# Altium schematic symbol library VD.SchLib: 74 symbols
Pins are listed as number, name and electrical type; pins without a type are passive.

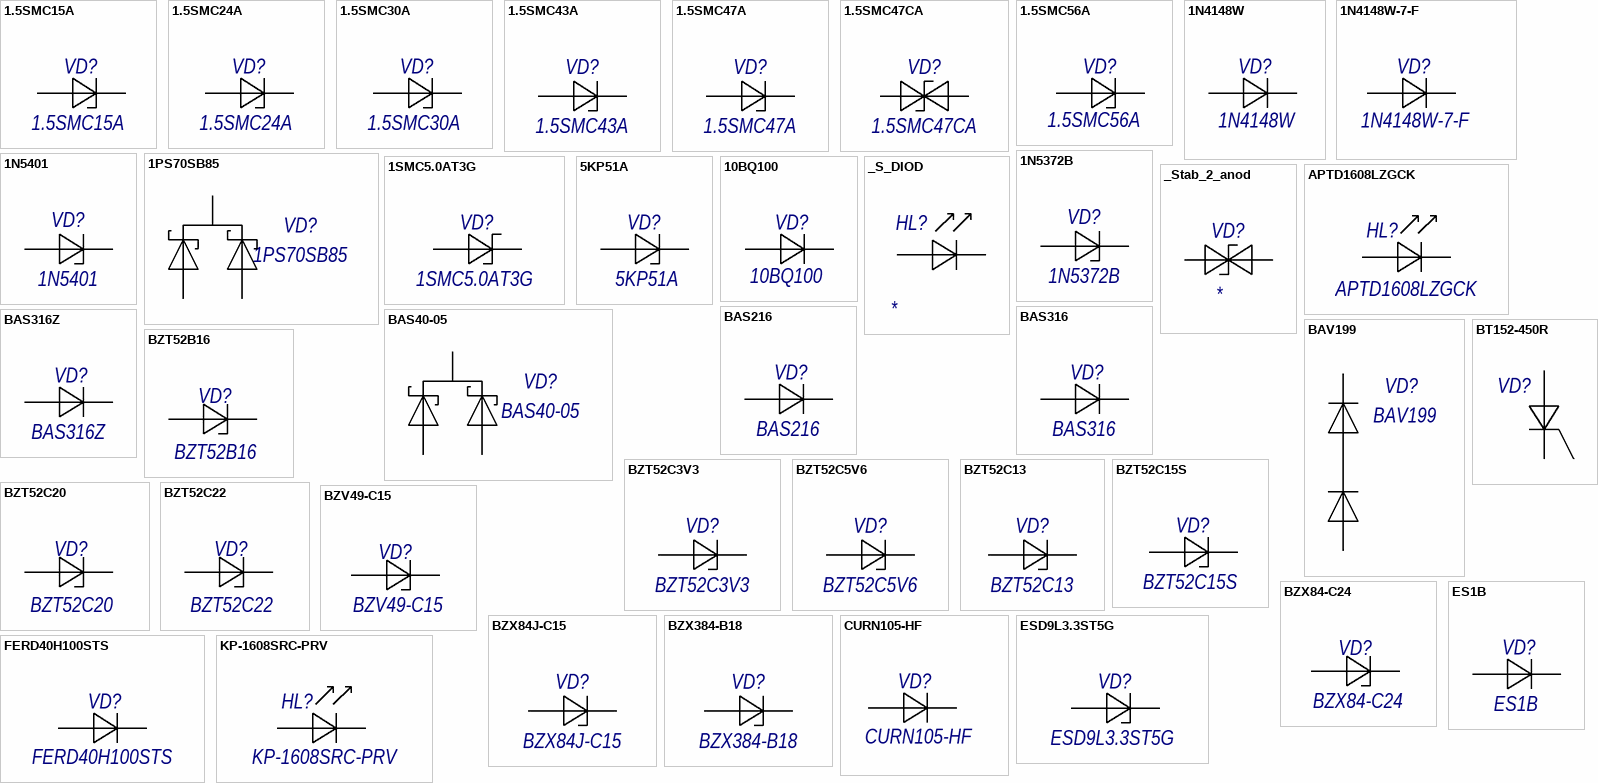
[diagram p0: symbols 1.5SMC15A to KP-1608SRC-PRV]

## 1.5SMC15A
designator VD?, comment PartNumber: 1.5SMC15A  (hidden comment: Стабилитрон 1.5SMC15A фирма "Littelfuse Inc")
min 14.3V max 15.8V 1.5 kW; GOST: Стабилитрон 1.5SMC15A фирма "Littelfuse Inc"
footprint SMC
pins: A 1, C 2

## 1.5SMC24A
designator VD?, comment PartNumber: 1.5SMC24A  (hidden comment: Стабилитрон 1.5SMC24A фирма ""Littelfuse"")
min 22.8V max 25.2V 1.5 kW; GOST: Стабилитрон 1.5SMC24A фирма ""Littelfuse""
footprint SMC
pins: A 1, C 2

## 1.5SMC30A
designator VD?, comment PartNumber: 1.5SMC30A  (hidden comment: Стабилитрон 1.5SMC30A фирма "Littelfuse")
min 28.5V max 31.5V 1.5 kW; GOST: Стабилитрон 1.5SMC30A фирма "Littelfuse"
footprint SMC
pins: A 1, C 2

## 1.5SMC43A
designator VD?, comment PartNumber: 1.5SMC43A  (hidden comment: Стабилитрон 1.5SMC43A фирма "Littelfuse")
min 40.9V max 45.2V 1.5 kW; GOST: Стабилитрон 1.5SMC43A фирма "Littelfuse"
footprint SMC
pins: A 1, C 2

## 1.5SMC47A
designator VD?, comment PartNumber: 1.5SMC47A  (hidden comment: Стабилитрон 1.5SMC47A фирма "Littelfuse")
min 44.7V max 49.4V 1.5 kW; GOST: Стабилитрон 1.5SMC47A фирма "Littelfuse"
footprint SMC
pins: A 1, C 2

## 1.5SMC47СA
designator VD?, comment PartNumber: 1.5SMC47СA  (hidden comment: Стабилитрон 1.5SMC47СA фирма "Littelfuse")
min 44.7V max 49.4V 1.5 kW Bi-directional; GOST: Стабилитрон 1.5SMC47СA фирма "Littelfuse"
footprint SMC (Bi) (SMC Bi-directional)
pins: 1, 2

## 1.5SMC56A
designator VD?  PartNumber: 1.5SMC56A
min 53.2V max 58.8V 1.5 kW; GOST: Стабилитрон 1.5SMC56A фирма "Littelfuse"
footprint SMC
footprint SMC
pins: A 1, C 2

## 1N4148W
designator VD?, comment PartNumber: 1N4148W  (hidden comment: Диод 1N4148W фирма "Diodes Incorporated")
SMD Small Signal Switching Diode, 100V, 150mA, SOD123; GOST: Диод 1N4148W фирма "Diodes Incorporated"
footprint SOD-123 (Dim 2.85mm*1.7mm H=1.35mm)
pins: A 1, C 2

## 1N4148W-7-F
designator VD?, comment PartNumber: 1N4148W-7-F  (hidden comment: Диод 1N4148W-7-F фирма "Diodes Incorporated")
DIODE GEN PURP 100V 300MA SOD123; GOST: Диод 1N4148W-7-F фирма "Diodes Incorporated"
footprint SOD-123 (Dim 2.85mm*1.7mm H=1.35mm)
pins: A 1, C 2

## 1N5372B
designator VD?, comment Диод 1N5372B фирма "ON Semiconductor"  (value not drawn)
1N5372B; GOST: Диод 1N5372B фирма "ON Semiconductor"; PartNumber: 1N5372B
footprint DO-201AE (LK=9.5 D=5.5)
pins: A 1, C 2

## 1N5401
designator VD?, comment PartNumber: 1N5401  (hidden comment: Диод 1N5401 фирма "Diotec Semiconductor")
Standard Recovery Rectifiers, 100V/1V 3A/10uA, 200A max, 175C; GOST: Диод 1N5401 фирма "Diotec Semiconductor"
footprint DO-201 (LK=7.8 D=4.7 Step 15mm)
pins: A 1, C 2

## 1PS70SB85
designator VD?, comment PartNumber: 1PS70SB85  (hidden comment: Диод 1PS70SB85 фирма "NXP Semiconductors")
2 SURFACE MOUNT SCHOTTKY BARRIER DIODE; GOST: Диод 1PS70SB85 фирма "NXP Semiconductors"
footprint SOT-23-3 (Dim 3mm*1.4mm H=1.1mm)
pins: 1, 2, 3

## 1SMC5.0AT3G
designator VD?, comment PartNumber: 1SMC5.0AT3G  (hidden comment: Стабилитрон 1SMC5.0AT3G фирма "ON Semiconductor")
min 6.4V max 7.0V 1.5 kW; GOST: Стабилитрон 1SMC5.0AT3G фирма "ON Semiconductor"
footprint SMC
pins: A 1, C 2

## 5KP51A
designator VD?, comment PartNumber: 5KP51A  (hidden comment: Стабилитрон 5KP51A фирма "Littelfuse")
min 56.7V max 62.7V 5kW; GOST: Стабилитрон 5KP51A фирма "Littelfuse"
footprint P600 (LK=7.5 D=8)
pins: A 1, C 2

## 10BQ100
designator VD?, comment Диод 10BQ100 фирма "Vishay"  (value not drawn)
10BQ100; GOST: Диод 10BQ100 фирма "Vishay"; PartNumber: 10BQ100
footprint SMB (Dim 5.6mm*4mm H=2.5mm)
pins: A 1, C 2

## _S_DIOD
designator HL?
S_DIOD; GOST: *; Value: *
pins: 1, 2

## _Stab_2_anod
designator VD?
Stab_2_anod; GOST: *; PartNumber: *
pins: 1, 2

## APTD1608LZGCK
designator HL?, comment PartNumber: APTD1608LZGCK  (hidden comment: Светодиод APTD1608LZGCK фирма "Kingbright")
Green 525nm LED Indication - Discrete 2.65V 0603; GOST: Светодиод APTD1608LZGCK фирма "Kingbright"
footprint APTD1608 (Dim 1.6mm*0.8mm H=0.95mm LED Kingbright)
pins: A, C

## BAS40-05
designator VD?, comment PartNumber: BAS40-05  (hidden comment: Диод BAS40-05 фирма "NXP Semiconductors")
2 SURFACE MOUNT SCHOTTKY BARRIER DIODE; GOST: Диод BAS40-05 фирма "NXP Semiconductors"
footprint SOT-23-3 (Dim 3mm*1.4mm H=1.1mm)
pins: 1, 2, 3

## BAS216
designator VD?, comment PartNumber: BAS216  (hidden comment: Диод BAS216 фирма "NXP Semiconductors")
Снят с производства 250mA 1.25V, 4A 85V 4ns, 150 C; GOST: Диод BAS216 фирма "NXP Semiconductors"
footprint SOD-110
pins: A 1, C 2

## BAS316
designator VD?, comment PartNumber: BAS316  (hidden comment: Диод BAS316 фирма "NXP Semiconductors")
250mA 1.25V 0.5A 100V 4ns 150 C; GOST: Диод BAS316 фирма "NXP Semiconductors"
footprint SOD-323 (SC-76) (Dim 1.8mm*1.3mm H=1.1mm)
pins: A 1, C 2

## BAS316Z
designator VD?, comment PartNumber: BAS316Z  (hidden comment: Диод BAS316Z фирма "NXP Semiconductors")
250mA 1.25V 0.5A 100V 4ns 150 C; GOST: Диод BAS316Z фирма "NXP Semiconductors"
footprint SOD-323 (SC-76) (Dim 1.8mm*1.3mm H=1.1mm)
pins: A 1, C 2

## BAV199
designator VD?, comment PartNumber: BAV199  (hidden comment: Диод BAV199 фирма "NXP Semiconductors")
2 SURFACE MOUNT SCHOTTKY BARRIER DIODE; GOST: Диод BAV199 фирма "NXP Semiconductors"
footprint SOT-23-3 (Dim 3mm*1.4mm H=1.1mm)
pins: 1, 2, 3
1 alternate drawing of the same symbol

## BT152-450R
designator VD?  (value not drawn)
pins: A, G, K

## BZT52B16
designator VD?, comment PartNumber: BZT52B16  (hidden comment: Стабилитрон BZT52B16 фирма "Vishay")
Small Signal Zener Diodes, VOLTAGE  RANGE 15.7-16.3V; GOST: Стабилитрон BZT52B16 фирма "Vishay"
footprint SOD-123 (Dim 2.85mm*1.7mm H=1.35mm)
pins: A 1, C 2

## BZT52C3V3
designator VD?, comment Стабилитрон BZT52C3V3 фирма "Diodes Incorporated"  (value not drawn)
BZT52C3V3; GOST: Стабилитрон BZT52C3V3 фирма "Diodes Incorporated"; PartNumber: BZT52C3V3
footprint SOD-123 (Dim 2.85mm*1.7mm H=1.35mm)
pins: A 1, C 2

## BZT52C5V6
designator VD?, comment PartNumber: BZT52C5V6  (hidden comment: Стабилитрон BZT52C5V6 фирма "Diodes Incorporated")
Zener Diode 5.6V 500mW ±7% Surface Mount SOD-123; GOST: Стабилитрон BZT52C5V6 фирма "Diodes Incorporated"
footprint SOD-123 (Dim 2.85mm*1.7mm H=1.35mm)
pins: A 1, C 2

## BZT52C13
designator VD?, comment PartNumber: BZT52C13  (hidden comment: Стабилитрон BZT52C13 фирма "Diodes Incorporated")
Zener Diode 13V 300mW ±6% Surface Mount SOD-123; GOST: Стабилитрон BZT52C13 фирма "Diodes Incorporated"
footprint SOD-123 (Dim 2.85mm*1.7mm H=1.35mm)
pins: A 1, C 2

## BZT52C15S
designator VD?, comment PartNumber: BZT52C15S  (hidden comment: Стабилитрон BZT52C15S фирма "Diodes Inc")
Zener Diode 15V 200mW ±6% Surface Mount SOD-323; GOST: Стабилитрон BZT52C15S фирма "Diodes Inc"
footprint SOD-323 (SC-76) (Dim 1.8mm*1.3mm H=1.1mm)
pins: A 1, C 2

## BZT52C20
designator VD?, comment Стабилитрон BZT52C20 фирма "Diodes Inc"  (value not drawn)
BZT52C20; GOST: Стабилитрон BZT52C20 фирма "Diodes Inc"; PartNumber: BZT52C20
footprint SOD-123 (Dim 2.85mm*1.7mm H=1.35mm)
pins: A 1, C 2

## BZT52C22
designator VD?, comment Стабилитрон BZT52C22 фирма "Diodes Inc"  (value not drawn)
BZT52C22; GOST: Стабилитрон BZT52C22 фирма "Diodes Inc"; PartNumber: BZT52C22
footprint SOD-123 (Dim 2.85mm*1.7mm H=1.35mm)
pins: A 1, C 2

## BZV49-C15
designator VD?
BZV49-C15; Pattern: SOT-89; GOST: Стабилитрон BZV49-C15 фирма "Nexperia"; PartNumber: BZV49-C15
pins: A 1, C 2

## BZX84-C24
designator VD?, comment PartNumber: BZX84-C24  (hidden comment: Стабилитрон BZX84-C24 фирма "Nexperia")
24V±5% (22.8-25.6V), Low-power voltage regulator diodes, total power dissipation 250 mW, SOT23; GOST: Стабилитрон BZX84-C24 фирма "Nexperia"
footprint SOT-23-3 (Dim 3mm*1.4mm H=1.1mm)
pins: 1 A, 3 C

## BZX84J-C15
designator VD?, comment PartNumber: BZX84J-C15  (hidden comment: Стабилитрон BZX84J-C15 фирма "Nexperia")
Single Zener diod 15V; GOST: Стабилитрон BZX84J-C15 фирма "Nexperia"
footprint SOD-323F (SC-90) (Dim 1.8mm*1.35mm H=0.8mm)
pins: A 1, C 2

## BZX384-B18
designator VD?, comment PartNumber: BZX384-B18  (hidden comment: Стабилитрон BZX384-B18 фирма "Nexperia")
Voltage regulator diode, 17.6 - 18.4 V, 1,5A max; GOST: Стабилитрон BZX384-B18 фирма "Nexperia"
footprint SOD-323 (SC-76) (Dim 1.8mm*1.3mm H=1.1mm)
pins: A 1, C 2

## CURN105-HF
designator VD?, comment PartNumber: CURN105-HF  (hidden comment: Диод CURN105-HF фирма "Comchip Technology")
SMD Ultra Fast Recovery Rectifiers 1KV 1A 1206; GOST: Диод CURN105-HF фирма "Comchip Technology"
footprint VD1206_H1mm (Dim (max) 3.6mm*2.1mm H=1.16mm)
pins: A 1, C 2

## ES1B
designator VD?, comment PartNumber: ES1B  (hidden comment: Диод ES1B фирма "Vishay")
Surface Mount Ultrafast Plastic Rectifier; GOST: Диод ES1B фирма "Vishay"
footprint SMA
pins: A 1, C 2

## ESD9L3.3ST5G
designator VD?, comment PartNumber: ESD9L3.3ST5G  (hidden comment: Стабилитрон ESD9L3.3ST5G фирма "ON Semiconductor")  (mechanical)
9V Clamp 1A (8/20µs) Ipp Tvs Diode Surface Mount SOD-923; GOST: Стабилитрон ESD9L3.3ST5G фирма "ON Semiconductor"
footprint SOD-923 (CASE 514AB) (Dim 0.85mm*0.65mm H=0.4mm max)
pins: A 1, C 2

## FERD40H100STS
designator VD?, comment Диод FERD40H100STS фирма "STMicroelectronics"  (value not drawn)
FERD40H100STS; GOST: Диод FERD40H100STS фирма "STMicroelectronics"; PartNumber: FERD40H100STS
pins: 1, 2

## KP-1608SRC-PRV
designator HL?, comment PartNumber: KP-1608SRC-PRV  (hidden comment: Светодиод KP-1608SRC-PRV фирма "Kingbright")
S_DIOD; GOST: Светодиод KP-1608SRC-PRV фирма "Kingbright"
footprint KP-1608SRC-PRV
pins: A 1, C 2

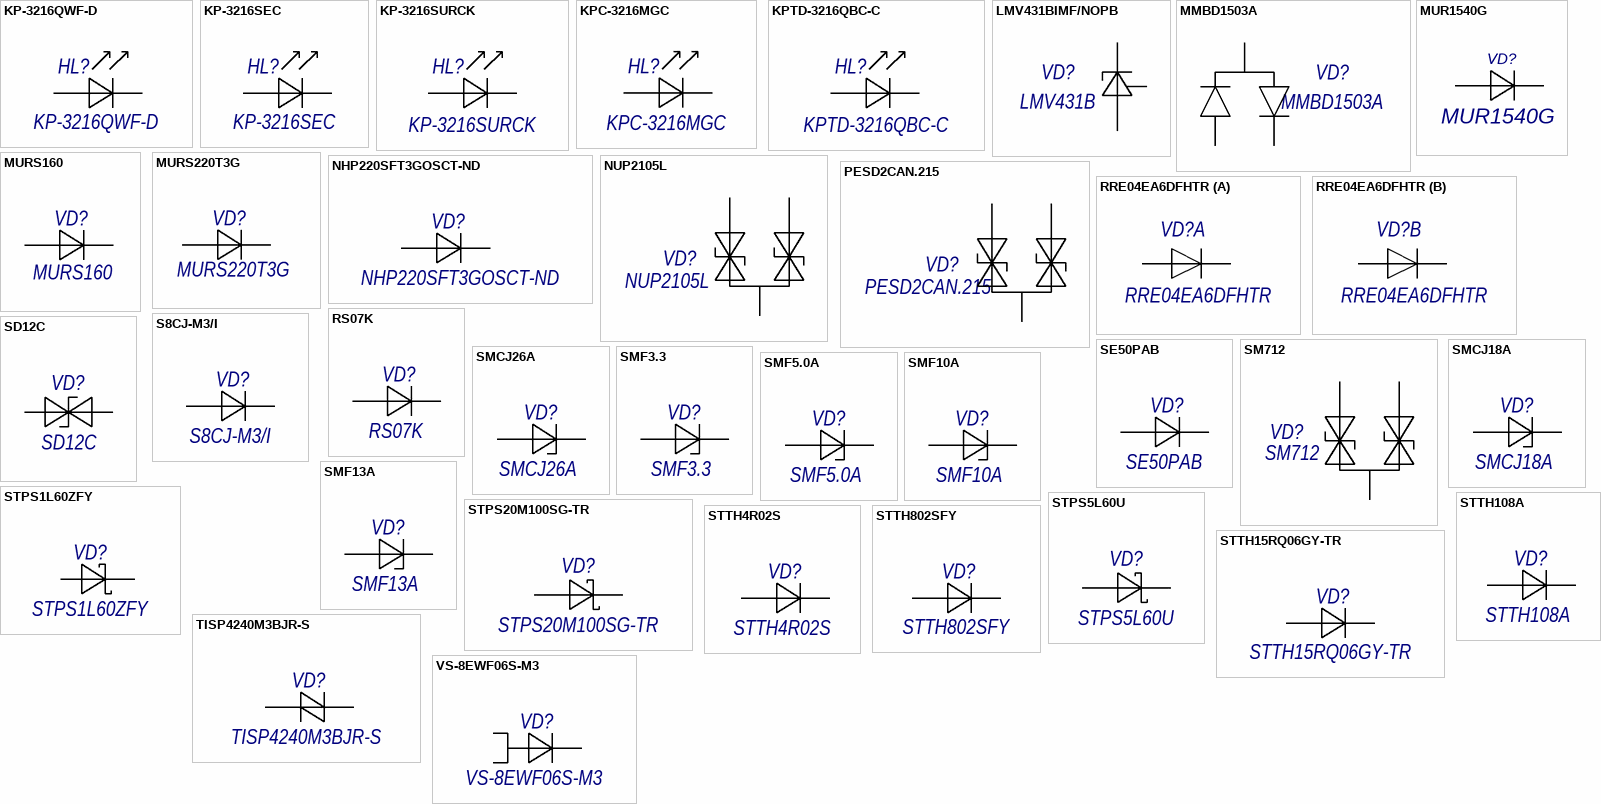
[diagram p1: symbols KP-3216QWF-D to VS-8EWF06S-M3]

## KP-3216QWF-D
designator HL?, comment PartNumber: KP-3216QWF-D  (hidden comment: Светодиод KP-3216QWF-D фирма "Kingbright")
LED, Low Power,  WHITE, SMD; GOST: Светодиод KP-3216QWF-D фирма "Kingbright"
footprint KP-3216 WHITE (Dim 3.2mm*1.6mm H=1.1mm)
pins: A, C

## KP-3216SEC
designator HL?, comment PartNumber: KP-3216SEC  (hidden comment: Светодиод KP-3216SEC фирма "Kingbright")
LED, Low Power,  Super Bright Orange, SMD, 20 mA, 2.5 V, 610 nm; GOST: Светодиод KP-3216SEC фирма "Kingbright"
footprint KP-3216 ORANGE (Dim 3.2mm*1.6mm H=1.1mm)
pins: A, C

## KP-3216SURCK
designator HL?, comment PartNumber: KP-3216SURCK  (hidden comment: Светодиод KP-3216SURCK фирма "Kingbright")
LED, Low Power, Hyper Red, SMD, 20 mA, 1.95 V, 630 nm; GOST: Светодиод KP-3216SURCK фирма "Kingbright"
footprint KP-3216 RED (Dim 3.2mm*1.6mm H=1.1mm)
pins: A, C

## KPC-3216MGC
designator HL?, comment PartNumber: KPC-3216MGC  (hidden comment: Светодиод KPC-3216MGC фирма "Kingbright")
LED, Low Power, Mega green, SMD, 20 mA, 2.1 V, 574 nm; GOST: Светодиод KPC-3216MGC фирма "Kingbright"
footprint KP-3216 GREEN (Dim 3.2mm*1.6mm H=1.1mm)
pins: A, C

## KPTD-3216QBC-C
designator HL?, comment PartNumber: KPTD-3216QBC-C  (hidden comment: Светодиод KPTD-3216QBC-C фирма "Kingbright")
LED, Low Power,  BLUE, SMD, 20 mA, 3.3 V, 470 nm; GOST: Светодиод KPTD-3216QBC-C фирма "Kingbright"
footprint KP-3216 BLUE (Dim 3.2mm*1.6mm H=1.1mm)
pins: A, C

## LMV431BIMF/NOPB
designator VD?, comment PartNumber: LMV431B  (hidden comment: Стабилитрон LMV431BIMF/NOPB фирма "Texas Instruments")
IC VREF SHUNT ADJ SOT23-3; Voltage - Output (Max): 30V; Voltage - Output (Min/Fixed): 1.24V; Tolerance: ±0.5%; Manufacturer: Texas Instruments; GOST: Стабилитрон LMV431BIMF/NOPB фирма "Texas Instruments"
footprint SOT-23-3 (Footprint not found)
pins: 1 2, 2 C, 3 A

## MMBD1503A
designator VD?, comment PartNumber: MMBD1503A  (hidden comment: Диод MMBD1503A фирма "On Semiconductor")
Small signal diodes; GOST: Диод MMBD1503A фирма "On Semiconductor"
footprint SOT-23-3 (Dim 3mm*1.4mm H=1.1mm)
pins: 1, 2, 3

## MUR1540G
designator VD?
GOST: Диод MUR1540G фирма "ON Semiconductor"; PartNumber: MUR1540G
pins: A 1, C 2

## MURS160
designator VD?, comment Диод MURS160 фирма "ON Semiconductor"  (value not drawn)
MURS160; GOST: Диод MURS160 фирма "ON Semiconductor"; PartNumber: MURS160
footprint SMB (Dim 5.6mm*4mm H=2.5mm)
pins: A 1, C 2

## MURS220T3G
designator VD?, comment PartNumber: MURS220T3G  (hidden comment: Диод MURS220T3G фирма "ON Semiconductor")
DIODE GEN PURP 200V 2A SMB; GOST: Диод MURS220T3G фирма "ON Semiconductor"
footprint SMB (Dim 5.6mm*4mm H=2.5mm)
pins: A 1, C 2

## NHP220SFT3GOSCT-ND
designator VD?, comment PartNumber: NHP220SFT3GOSCT-ND  (hidden comment: Диод NHP220SFT3GOSCT-ND фирма "ON Semiconductor")
200V 2A SOD-123FL; GOST: Диод NHP220SFT3GOSCT-ND фирма "ON Semiconductor"
footprint SOD-123FL (Dim 2.9mm*2.0mm H=1.1mm)
pins: A 1, C 2

## NUP2105L
designator VD?, comment PartNumber: NUP2105L  (hidden comment: Диод NUP2105L фирма "ONSemiconductor")
CAN bus ESD protection diode; GOST: Диод NUP2105L фирма "ONSemiconductor"
footprint SOT-23-3 (Dim 3mm*1.4mm H=1.1mm)
pins: 1, 2, 3

## PESD2CAN.215
designator VD?, comment PartNumber: PESD2CAN.215  (hidden comment: Диод PESD2CAN.215 фирма "Nexperia")
CAN bus ESD protection diode; GOST: Диод PESD2CAN.215 фирма "Nexperia"
footprint SOT-23-3 (Dim 3mm*1.4mm H=1.1mm)
pins: 1, 2, 3

## RRE04EA6DFHTR
designator VD?, comment PartNumber: RRE04EA6DFHTR  (hidden comment: Диод RRE04EA6DFHTR фирма "Rohm Semiconductor")
Diode Array 2 Independent Standard 400mA Surface Mount SOT-23-5 Thin, TSOT-23-5; Prefix: VD; Manufacturer: Rohm Semiconductor; Pattern: TSOT-23-5; GOST: Диод RRE04EA6DFHTR фирма "Rohm Semiconductor"
footprint TSOT-5 (2.9*1.6mm H=1mm (UJ-5 Analog devices))
part A pins: 1 A, 5 C
part B pins: 3 A, 4 C

## RS07K
designator VD?, comment PartNumber: RS07K  (hidden comment: Диод RS07K фирма "Vishay")
Diode Standard 800V 500mA Surface Mount DO-219AB (SMF); GOST: Диод RS07K фирма "Vishay"
footprint SMF (DO-219AB) (Dim 2.9x1.9)
pins: A 1, C 2

## S8CJ-M3/I
designator VD?, comment PartNumber: S8CJ-M3/I  (hidden comment: Диод S8CJ-M3/I фирма "Vishay")
Surface Mount Ultrafast Plastic Rectifier; GOST: Диод S8CJ-M3/I фирма "Vishay"
footprint SMC
pins: A 1, C 2

## SD12C
designator VD?, comment Диод SD12C фирма "Semtech Corporation"  (value not drawn)
SD12C; GOST: Диод SD12C фирма "Semtech Corporation"; PartNumber: SD12C
footprint SOD-323 (SC-76) (BI) (Dim 1.8mm*1.3mm H=1.1mm Bi-directional)
pins: 1, 2

## SE50PAB
designator VD?, comment PartNumber: SE50PAB  (hidden comment: Диод SE50PAB фирма "Vishay")
Surface-Mount ESD Capability Rectifiers, 5А, 100В, 175 град; GOST: Диод SE50PAB фирма "Vishay"
footprint SMPA (DO-221BC) (max 5.35x2.7mm)
pins: A 1, C 2

## SM712
designator VD?, comment Диод SM712 фирма "Semtech Corporation"  (value not drawn)
SM712; GOST: Диод SM712 фирма "Semtech Corporation"; PartNumber: SM712
footprint SOT-23-3 (Dim 3mm*1.4mm H=1.1mm)
pins: 1, 2, 3

## SMCJ18A
designator VD?, comment PartNumber: SMCJ18A  (hidden comment: Стабилитрон SMCJ18A фирма "Littelfusec")
Transient Voltage Suppression Diodes 20,0V-22,1V, 1 mA; GOST: Стабилитрон SMCJ18A фирма "Littelfusec"
footprint SMC
pins: A 1, C 2

## SMCJ26A
designator VD?, comment PartNumber: SMCJ26A  (hidden comment: Стабилитрон SMCJ26A фирма "Littelfusec")
Transient Voltage Suppression Diodes 28,9V 1 mA; GOST: Стабилитрон SMCJ26A фирма "Littelfusec"
footprint SMC
pins: A 1, C 2

## SMF3.3
designator VD?, comment PartNumber: SMF3.3  (hidden comment: Стабилитрон SMF3.3 фирма "Littelfuse")
TVS DIODE 3.3V 6.8V SOD123FL; GOST: Стабилитрон SMF3.3 фирма "Littelfuse"
footprint SOD-123FL (Dim 2.9mm*2.0mm H=1.1mm)
pins: A 1, C 2

## SMF5.0A
designator VD?, comment PartNumber: SMF5.0A  (hidden comment: Стабилитрон SMF5.0A фирма "Littelfusec")
TVS DIODE 5V 9.2V SOD123F; GOST: Стабилитрон SMF5.0A фирма "Littelfusec"
footprint SOD-123FL (Dim 2.9mm*2.0mm H=1.1mm)
pins: A 1, C 2

## SMF10A
designator VD?, comment PartNumber: SMF10A  (hidden comment: Стабилитрон SMF10A фирма "Littelfuse")
TVS DIODE 10V 17V SOD123F; GOST: Стабилитрон SMF10A фирма "Littelfuse"
footprint SOD-123FL (Dim 2.9mm*2.0mm H=1.1mm)
pins: A 1, C 2

## SMF13A
designator VD?, comment PartNumber: SMF13A  (hidden comment: Стабилитрон SMF13A фирма "Littelfuse")
TVS DIODE 13V 21.5V SOD123F; GOST: Стабилитрон SMF13A фирма "Littelfuse"
footprint SOD-123FL (Dim 2.9mm*2.0mm H=1.1mm)
pins: A 1, C 2

## STPS1L60ZFY
designator VD?, comment PartNumber: STPS1L60ZFY  (hidden comment: Диод STPS1L60ZFY фирма "STMicroelectronics")
DIODE SCHOTTKY 60V 1A SOD123F; GOST: Диод STPS1L60ZFY фирма "STMicroelectronics"
footprint SOD-123FL (Dim 2.9mm*2.0mm H=1.1mm)
pins: A 1, C 2

## STPS5L60U
designator VD?, comment PartNumber: STPS5L60U  (hidden comment: Диод STPS5L60U фирма "STMicroelectronics")
Power Schottky rectifier I=5A, V=60V, Vdrop=0.48V, T=150градC; GOST: Диод STPS5L60U фирма "STMicroelectronics"
footprint SMB (Dim 5.6mm*4mm H=2.5mm)
pins: A 1 "A2", C 2 "C"

## STPS20M100SG-TR
designator VD?, comment PartNumber: STPS20M100SG-TR  (hidden comment: Диод STPS20M100SG-TR фирма "STMicroelectronics")
Power Schottky rectifier I=20A, V=100V, Vdrop=0.455V, T=150градC; GOST: Диод STPS20M100SG-TR фирма "STMicroelectronics"
footprint D2PAK ((TO-263AB) Dim 10.7mm*16mm H=4.83mm)
pins: 1 "A1", 2 "A2", 3 "C"

## STTH4R02S
designator VD?, comment PartNumber: STTH4R02S  (hidden comment: Диод STTH4R02S фирма "STMicroelectronics")
Ultrafast recovery diode 4A 200V 175°C; GOST: Диод STTH4R02S фирма "STMicroelectronics"
footprint SMC
footprint SMC (no ZZ)
pins: A 1, C 2

## STTH15RQ06GY-TR
designator VD?
Diode Standard 600V 15A Surface Mount D2PAK; Reverse Recovery Time: 50ns; GOST: Диод STTH15RQ06GY-TR фирма "STMicroelectronics"; Reverse Voltage: 600V; Average Current: 15A; PartNumber: STTH15RQ06GY-TR
footprint D2PAK ((TO-263AB) Dim 10.7mm*16mm H=4.83mm)
footprint D2PAK and krepl ((TO-263AB) Dim 10.7mm*16mm H=4.83mm)
pins: 2, 3

## STTH108A
designator VD?, comment PartNumber: STTH108A  (hidden comment: Диод STTH108A фирма "STMicroelectronics")
High voltage ultrafast rectifier 1A 800V; GOST: Диод STTH108A фирма "STMicroelectronics"
footprint SMA
pins: A 1, C 2

## STTH802SFY
designator VD?
Diode Standard 200V 8A Surface Mount TO-277A (SMPC); Reverse Recovery Time: 35ns; GOST: Диод STTH802SFY фирма "STMicroelectronics"; Reverse Voltage: 200V; Average Current: 8A; PartNumber: STTH802SFY
footprint PSMC (TO-277A) ((TO-277A) Dim 4.6mm*6.5mm H=1.2mm)
pins: 1 A, 2 A, 3 K

## TISP4240M3BJR-S
designator VD?, comment PartNumber: TISP4240M3BJR-S  (hidden comment: Тиристорное устройство защиты TISP4240M3BJR-S фирма "Bourns")
Тиристорное устройство защиты от импульсных перенапряжений BI-DIRECTIONL PRTCTR 180volts; GOST: Тиристорное устройство защиты TISP4240M3BJR-S фирма "Bourns"; Package: BJ (J-Bend DO-214AA/SMB)
footprint SMB (T) (Dim 5.6mm*4mm H=2.5mm BiDirectional thyristor protectors Package BJ (J-Bend DO-214AA/SMB))
pins: R 2, T 1

## VS-8EWF06S-M3
designator VD?, comment PartNumber: VS-8EWF06S-M3  (hidden comment: Диод VS-8EWF06S-M3 фирма "Vishay")
Surface Mount Fast Soft Recovery Rectifier Diode, 8 A 600V 55ns; GOST: Диод VS-8EWF06S-M3 фирма "Vishay"
footprint D-PAK ((TO-252AA) Dim 6.8mm*10.4mm H=2.4mm)
pins: 1 A, 2 A, 3 C